# Altium integrated library Analog_Devices_Power_Management_Linear_Regulators.IntLib: 441 symbols (part 4 of 23)
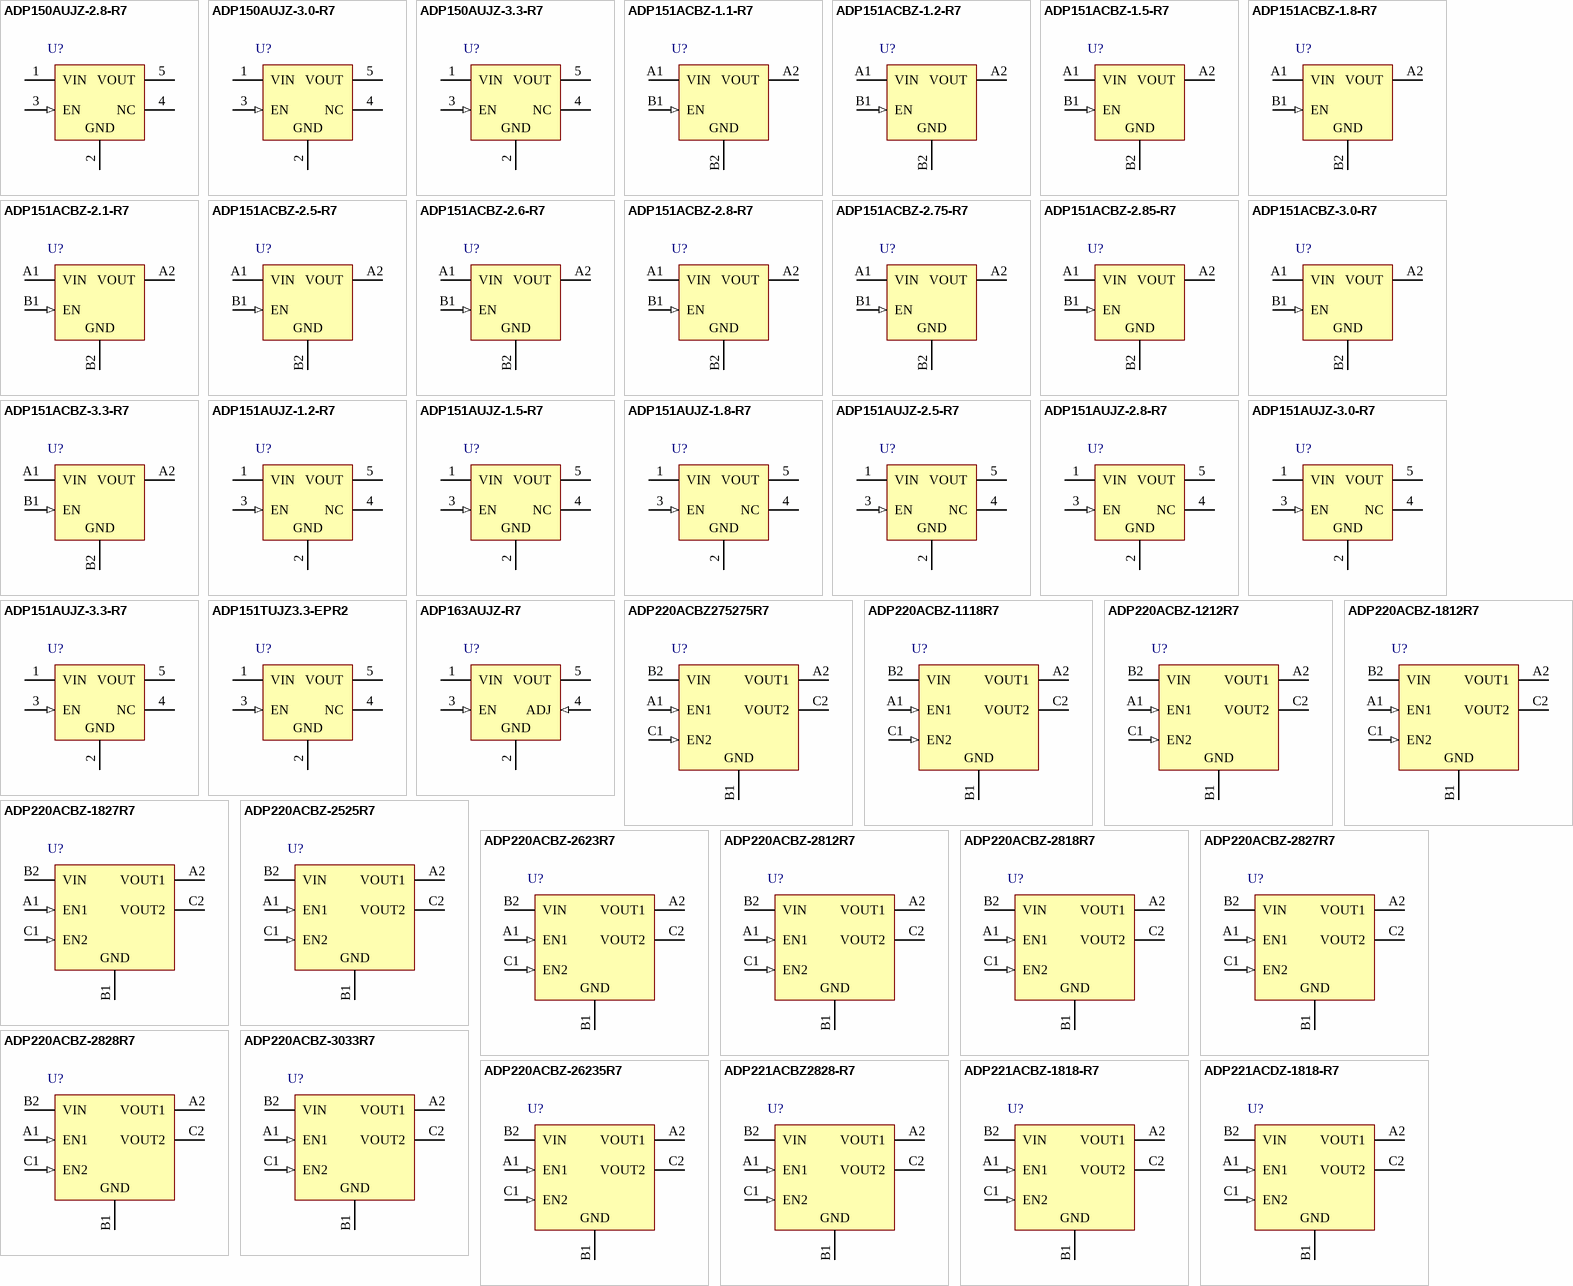
[diagram p14: symbols ADP150AUJZ-2.8-R7 to ADP221ACDZ-1818-R7]

## ADP220ACBZ-2525R7
designator U?
Dual, 200 mA, Low Noise, High PSRR Voltage Regulator, 2.5 to 5.5 V Vin, 2.5 V Vout, Industrial, 6-pin BGA (CB-6-2), Reel; Manufacturer: Analog Devices; PartNumber: ADP220ACBZ-2525R7; Iout max: 200mA; Preset Vout Values (V): 2.5; 2.5; Supply Current IGND @ Small Load: 60uA; Vin (max) (V): 5.5; Vin (min) (V): 2.5; DatasheetVersion: 08-15-2012-A; PackageVersion: 062206-A, 06/2006; PackageReference: CB-6-2; PackageDescription: 6-Ball Wafer Level Chip Scale Package, Body 1.45 x 0.95 mm, Pitch 0.5 mm; Supplier 1: Digi-Key; Supplier Part Number 1: ADP220ACBZ-2525R7TR-ND; Supplier 2: Digi-Key; Supplier Part Number 2: ADP220ACBZ-2525R7CT-ND; Supplier 3: Digi-Key; Supplier Part Number 3: ADP220ACBZ-2525R7DKR-ND; Supplier 4: Mouser; Supplier Part Number 4: 584-ADP220ACBZ2525R7; Packing: Reel; Mounting Technology: Surface Mount; ComponentLink1Description: Manufacturer URL; ComponentLink1URL: http://www.analog.com/en/index.html; ComponentLink2Description: Datasheet; ComponentLink2URL: http://www.analog.com/static/imported-files/data_sheets/ADP220_221.pdf; ComponentLink3Description: Package Specification; ComponentLink3URL: http://www.analog.com/static/imported-files/data_sheets/AD8312.pdf; ComponentLink4Description: URL Link1; ComponentLink4URL: Product URL:http://www.analog.com/en/ADP220/productSearch.html
footprint ADI-CB-6-2 (BGA, 6-Balls, Body 1.45x0.95mm, Pitch 0.5mm)
pins: A1 EN1 (in) "Enable Input for Regulator 1. Drive EN1 high to turn on Regulator 1; drive it low to turn off Regulator 1. For automatic startup, connect EN1 to VIN.", A2 VOUT1 (power) "Regulated Output Voltage 1. Connect a 1 uF or greater output capacitor between VOUT1 and GND.", B1 GND (power) "Ground Pin.", B2 VIN (power) "Regulator Input Supply. Bypass VIN to GND with a 1 uF or greater capacitor.", C1 EN2 (in) "Enable Input for Regulator 2. Drive EN2 high to turn on Regulator 2; drive it low to turn off Regulator 2. For automatic startup, connect EN2 to VIN.", C2 VOUT2 (power) "Regulated Output Voltage 2. Connect a 1 uF or greater output capacitor between VOUT2 and GND."

## ADP220ACBZ-2623R7
designator U?
Dual, 200 mA, Low Noise, High PSRR Voltage Regulator, 2.3 to 5.5 V Vin, 2.6; 2.3 V Vout, Industrial, 6-pin BGA (CB-6-2), Reel; Manufacturer: Analog Devices; PartNumber: ADP220ACBZ-2623R7; Iout max: 200mA; Supply Current IGND @ Small Load: 60uA; Vin (max) (V): 5.5; Vin (min) (V): 2.5; DatasheetVersion: 08-15-2012-A; PackageVersion: 062206-A, 06/2006; PackageReference: CB-6-2; PackageDescription: 6-Ball Wafer Level Chip Scale Package, Body 1.45 x 0.95 mm, Pitch 0.5 mm; Supplier 1: Digi-Key; Supplier Part Number 1: ADP220ACBZ-2623R7TR-ND; Supplier 2: Digi-Key; Supplier Part Number 2: ADP220ACBZ-2623R7CT-ND; Supplier 3: Digi-Key; Supplier Part Number 3: ADP220ACBZ-2623R7DKR-ND; Supplier 4: Mouser; Supplier Part Number 4: 584-ADP220ACBZ2623R7; Packing: Reel; Preset Vout Values (V): 2.6; 2.3; Mounting Technology: Surface Mount; ComponentLink1Description: Manufacturer URL; ComponentLink1URL: http://www.analog.com/en/index.html; ComponentLink2Description: Datasheet; ComponentLink2URL: http://www.analog.com/static/imported-files/data_sheets/ADP220_221.pdf; ComponentLink3Description: Package Specification; ComponentLink3URL: http://www.analog.com/static/imported-files/data_sheets/AD8312.pdf; ComponentLink4Description: URL Link1; ComponentLink4URL: Product URL:http://www.analog.com/en/ADP220/productSearch.html
footprint ADI-CB-6-2 (BGA, 6-Balls, Body 1.45x0.95mm, Pitch 0.5mm)
pins: A1 EN1 (in) "Enable Input for Regulator 1. Drive EN1 high to turn on Regulator 1; drive it low to turn off Regulator 1. For automatic startup, connect EN1 to VIN.", A2 VOUT1 (power) "Regulated Output Voltage 1. Connect a 1 uF or greater output capacitor between VOUT1 and GND.", B1 GND (power) "Ground Pin.", B2 VIN (power) "Regulator Input Supply. Bypass VIN to GND with a 1 uF or greater capacitor.", C1 EN2 (in) "Enable Input for Regulator 2. Drive EN2 high to turn on Regulator 2; drive it low to turn off Regulator 2. For automatic startup, connect EN2 to VIN.", C2 VOUT2 (power) "Regulated Output Voltage 2. Connect a 1 uF or greater output capacitor between VOUT2 and GND."

## ADP220ACBZ-2812R7
designator U?
Dual, 200 mA, Low Noise, High PSRR Voltage Regulator, 2.3 to 5.5 V Vin, 2.8; 1.2 V Vout, Industrial, 6-pin BGA (CB-6-2), Reel; Manufacturer: Analog Devices; PartNumber: ADP220ACBZ-2812R7; Iout max: 200mA; Supply Current IGND @ Small Load: 60uA; Vin (max) (V): 5.5; Vin (min) (V): 2.5; DatasheetVersion: 08-15-2012-A; PackageVersion: 062206-A, 06/2006; PackageReference: CB-6-2; PackageDescription: 6-Ball Wafer Level Chip Scale Package, Body 1.45 x 0.95 mm, Pitch 0.5 mm; Supplier 1: Digi-Key; Supplier Part Number 1: ADP220ACBZ-2812R7TR-ND; Supplier 2: Digi-Key; Supplier Part Number 2: ADP220ACBZ-2812R7CT-ND; Supplier 3: Digi-Key; Supplier Part Number 3: ADP220ACBZ-2812R7DKR-ND; Supplier 4: Mouser; Supplier Part Number 4: 584-ADP220ACBZ2812R7; Packing: Reel; Preset Vout Values (V): 2.8; 1.2; Mounting Technology: Surface Mount; ComponentLink1Description: Manufacturer URL; ComponentLink1URL: http://www.analog.com/en/index.html; ComponentLink2Description: Datasheet; ComponentLink2URL: http://www.analog.com/static/imported-files/data_sheets/ADP220_221.pdf; ComponentLink3Description: Package Specification; ComponentLink3URL: http://www.analog.com/static/imported-files/data_sheets/AD8312.pdf; ComponentLink4Description: URL Link1; ComponentLink4URL: Product URL:http://www.analog.com/en/ADP220/productSearch.html
footprint ADI-CB-6-2 (BGA, 6-Balls, Body 1.45x0.95mm, Pitch 0.5mm)
pins: A1 EN1 (in) "Enable Input for Regulator 1. Drive EN1 high to turn on Regulator 1; drive it low to turn off Regulator 1. For automatic startup, connect EN1 to VIN.", A2 VOUT1 (power) "Regulated Output Voltage 1. Connect a 1 uF or greater output capacitor between VOUT1 and GND.", B1 GND (power) "Ground Pin.", B2 VIN (power) "Regulator Input Supply. Bypass VIN to GND with a 1 uF or greater capacitor.", C1 EN2 (in) "Enable Input for Regulator 2. Drive EN2 high to turn on Regulator 2; drive it low to turn off Regulator 2. For automatic startup, connect EN2 to VIN.", C2 VOUT2 (power) "Regulated Output Voltage 2. Connect a 1 uF or greater output capacitor between VOUT2 and GND."

## ADP220ACBZ-2818R7
designator U?
Dual, 200 mA, Low Noise, High PSRR Voltage Regulator, 2.5 to 5.5 V Vin, 2.8; 1.8 V Vout, Industrial, 6-pin BGA (CB-6-2), Reel; Manufacturer: Analog Devices; PartNumber: ADP220ACBZ-2818R7; Iout max: 200mA; Supply Current IGND @ Small Load: 60uA; Vin (max) (V): 5.5; Vin (min) (V): 2.5; DatasheetVersion: 08-15-2012-A; PackageVersion: 062206-A, 06/2006; PackageReference: CB-6-2; PackageDescription: 6-Ball Wafer Level Chip Scale Package, Body 1.45 x 0.95 mm, Pitch 0.5 mm; Supplier 1: Digi-Key; Supplier Part Number 1: ADP220ACBZ-2818R7TR-ND; Supplier 2: Digi-Key; Supplier Part Number 2: ADP220ACBZ-2818R7CT-ND; Supplier 3: Digi-Key; Supplier Part Number 3: ADP220ACBZ-2818R7DKR-ND; Supplier 4: Mouser; Supplier Part Number 4: 584-ADP220ACBZ2818R7; Packing: Reel; Preset Vout Values (V): 2.8; 1.8; Mounting Technology: Surface Mount; ComponentLink1Description: Manufacturer URL; ComponentLink1URL: http://www.analog.com/en/index.html; ComponentLink2Description: Datasheet; ComponentLink2URL: http://www.analog.com/static/imported-files/data_sheets/ADP220_221.pdf; ComponentLink3Description: Package Specification; ComponentLink3URL: http://www.analog.com/static/imported-files/data_sheets/AD8312.pdf; ComponentLink4Description: URL Link1; ComponentLink4URL: Product URL:http://www.analog.com/en/ADP220/productSearch.html
footprint ADI-CB-6-2 (BGA, 6-Balls, Body 1.45x0.95mm, Pitch 0.5mm)
pins: A1 EN1 (in) "Enable Input for Regulator 1. Drive EN1 high to turn on Regulator 1; drive it low to turn off Regulator 1. For automatic startup, connect EN1 to VIN.", A2 VOUT1 (power) "Regulated Output Voltage 1. Connect a 1 uF or greater output capacitor between VOUT1 and GND.", B1 GND (power) "Ground Pin.", B2 VIN (power) "Regulator Input Supply. Bypass VIN to GND with a 1 uF or greater capacitor.", C1 EN2 (in) "Enable Input for Regulator 2. Drive EN2 high to turn on Regulator 2; drive it low to turn off Regulator 2. For automatic startup, connect EN2 to VIN.", C2 VOUT2 (power) "Regulated Output Voltage 2. Connect a 1 uF or greater output capacitor between VOUT2 and GND."

## ADP220ACBZ-2827R7
designator U?
Dual, 200 mA, Low Noise, High PSRR Voltage Regulator, 2.5 to 5.5 V Vin, 2.8; 2.7 V Vout, Industrial, 6-pin BGA (CB-6-2), Reel; Manufacturer: Analog Devices; PartNumber: ADP220ACBZ-2827R7; Iout max: 200mA; Supply Current IGND @ Small Load: 60uA; Vin (max) (V): 5.5; Vin (min) (V): 2.5; DatasheetVersion: 08-15-2012-A; PackageVersion: 062206-A, 06/2006; PackageReference: CB-6-2; PackageDescription: 6-Ball Wafer Level Chip Scale Package, Body 1.45 x 0.95 mm, Pitch 0.5 mm; Supplier 1: Digi-Key; Supplier Part Number 1: ADP220ACBZ-2827R7TR-ND; Supplier 2: Digi-Key; Supplier Part Number 2: ADP220ACBZ-2827R7CT-ND; Supplier 3: Digi-Key; Supplier Part Number 3: ADP220ACBZ-2827R7DKR-ND; Supplier 4: Mouser; Supplier Part Number 4: 584-ADP220ACBZ2827R7; Packing: Reel; Preset Vout Values (V): 2.8; 2.7; Mounting Technology: Surface Mount; ComponentLink1Description: Manufacturer URL; ComponentLink1URL: http://www.analog.com/en/index.html; ComponentLink2Description: Datasheet; ComponentLink2URL: http://www.analog.com/static/imported-files/data_sheets/ADP220_221.pdf; ComponentLink3Description: Package Specification; ComponentLink3URL: http://www.analog.com/static/imported-files/data_sheets/AD8312.pdf; ComponentLink4Description: URL Link1; ComponentLink4URL: Product URL:http://www.analog.com/en/ADP220/productSearch.html
footprint ADI-CB-6-2 (BGA, 6-Balls, Body 1.45x0.95mm, Pitch 0.5mm)
pins: A1 EN1 (in) "Enable Input for Regulator 1. Drive EN1 high to turn on Regulator 1; drive it low to turn off Regulator 1. For automatic startup, connect EN1 to VIN.", A2 VOUT1 (power) "Regulated Output Voltage 1. Connect a 1 uF or greater output capacitor between VOUT1 and GND.", B1 GND (power) "Ground Pin.", B2 VIN (power) "Regulator Input Supply. Bypass VIN to GND with a 1 uF or greater capacitor.", C1 EN2 (in) "Enable Input for Regulator 2. Drive EN2 high to turn on Regulator 2; drive it low to turn off Regulator 2. For automatic startup, connect EN2 to VIN.", C2 VOUT2 (power) "Regulated Output Voltage 2. Connect a 1 uF or greater output capacitor between VOUT2 and GND."

## ADP220ACBZ-2828R7
designator U?
Dual, 200 mA, Low Noise, High PSRR Voltage Regulator, 2.5 to 5.5 V Vin, 2.8 V Vout, Industrial, 6-pin BGA (CB-6-2), Reel; Manufacturer: Analog Devices; PartNumber: ADP220ACBZ-2828R7; Iout max: 200mA; Preset Vout Values (V): 2.8; 2.8; Supply Current IGND @ Small Load: 60uA; Vin (max) (V): 5.5; Vin (min) (V): 2.5; DatasheetVersion: 08-15-2012-A; PackageVersion: 062206-A, 06/2006; PackageReference: CB-6-2; PackageDescription: 6-Ball Wafer Level Chip Scale Package, Body 1.45 x 0.95 mm, Pitch 0.5 mm; Supplier 1: Digi-Key; Supplier Part Number 1: ADP220ACBZ-2828R7TR-ND; Supplier 2: Digi-Key; Supplier Part Number 2: ADP220ACBZ-2828R7CT-ND; Supplier 3: Digi-Key; Supplier Part Number 3: ADP220ACBZ-2828R7DKR-ND; Supplier 4: Mouser; Supplier Part Number 4: 584-ADP220ACBZ2828R7; Packing: Reel; Mounting Technology: Surface Mount; ComponentLink1Description: Manufacturer URL; ComponentLink1URL: http://www.analog.com/en/index.html; ComponentLink2Description: Datasheet; ComponentLink2URL: http://www.analog.com/static/imported-files/data_sheets/ADP220_221.pdf; ComponentLink3Description: Package Specification; ComponentLink3URL: http://www.analog.com/static/imported-files/data_sheets/AD8312.pdf; ComponentLink4Description: URL Link1; ComponentLink4URL: Product URL:http://www.analog.com/en/ADP220/productSearch.html
footprint ADI-CB-6-2 (BGA, 6-Balls, Body 1.45x0.95mm, Pitch 0.5mm)
pins: A1 EN1 (in) "Enable Input for Regulator 1. Drive EN1 high to turn on Regulator 1; drive it low to turn off Regulator 1. For automatic startup, connect EN1 to VIN.", A2 VOUT1 (power) "Regulated Output Voltage 1. Connect a 1 uF or greater output capacitor between VOUT1 and GND.", B1 GND (power) "Ground Pin.", B2 VIN (power) "Regulator Input Supply. Bypass VIN to GND with a 1 uF or greater capacitor.", C1 EN2 (in) "Enable Input for Regulator 2. Drive EN2 high to turn on Regulator 2; drive it low to turn off Regulator 2. For automatic startup, connect EN2 to VIN.", C2 VOUT2 (power) "Regulated Output Voltage 2. Connect a 1 uF or greater output capacitor between VOUT2 and GND."

## ADP220ACBZ-3033R7
designator U?
Dual, 200 mA, Low Noise, High PSRR Voltage Regulator, 2.3 to 5.5 V Vin, 3.0; 3.3 V Vout, Industrial, 6-pin BGA (CB-6-2), Reel; Manufacturer: Analog Devices; PartNumber: ADP220ACBZ-3033R7; Iout max: 200mA; Supply Current IGND @ Small Load: 60uA; Vin (max) (V): 5.5; Vin (min) (V): 2.5; DatasheetVersion: 08-15-2012-A; PackageVersion: 062206-A, 06/2006; PackageReference: CB-6-2; PackageDescription: 6-Ball Wafer Level Chip Scale Package, Body 1.45 x 0.95 mm, Pitch 0.5 mm; Supplier 1: Mouser; Supplier Part Number 1: N/A; Packing: Reel; Preset Vout Values (V): 3.0; 3.3; Mounting Technology: Surface Mount; ComponentLink1Description: Manufacturer URL; ComponentLink1URL: http://www.analog.com/en/index.html; ComponentLink2Description: Datasheet; ComponentLink2URL: http://www.analog.com/static/imported-files/data_sheets/ADP220_221.pdf; ComponentLink3Description: Package Specification; ComponentLink3URL: http://www.analog.com/static/imported-files/data_sheets/AD8312.pdf; ComponentLink4Description: URL Link1; ComponentLink4URL: Product URL:http://www.analog.com/en/ADP220/productSearch.html
footprint ADI-CB-6-2 (BGA, 6-Balls, Body 1.45x0.95mm, Pitch 0.5mm)
pins: A1 EN1 (in) "Enable Input for Regulator 1. Drive EN1 high to turn on Regulator 1; drive it low to turn off Regulator 1. For automatic startup, connect EN1 to VIN.", A2 VOUT1 (power) "Regulated Output Voltage 1. Connect a 1 uF or greater output capacitor between VOUT1 and GND.", B1 GND (power) "Ground Pin.", B2 VIN (power) "Regulator Input Supply. Bypass VIN to GND with a 1 uF or greater capacitor.", C1 EN2 (in) "Enable Input for Regulator 2. Drive EN2 high to turn on Regulator 2; drive it low to turn off Regulator 2. For automatic startup, connect EN2 to VIN.", C2 VOUT2 (power) "Regulated Output Voltage 2. Connect a 1 uF or greater output capacitor between VOUT2 and GND."

## ADP220ACBZ-26235R7
designator U?
Dual, 200 mA, Low Noise, High PSRR Voltage Regulator, 2.3 to 5.5 V Vin, 2.6; 2.35 V Vout, Industrial, 6-pin BGA (CB-6-2), Reel; Manufacturer: Analog Devices; PartNumber: ADP220ACBZ-26235R7; Iout max: 200mA; Supply Current IGND @ Small Load: 60uA; Vin (max) (V): 5.5; Vin (min) (V): 2.5; DatasheetVersion: 08-15-2012-A; PackageVersion: 062206-A, 06/2006; PackageReference: CB-6-2; PackageDescription: 6-Ball Wafer Level Chip Scale Package, Body 1.45 x 0.95 mm, Pitch 0.5 mm; Supplier 1: Digi-Key; Supplier Part Number 1: ADP220ACBZ-26235R7TR-ND; Supplier 2: Digi-Key; Supplier Part Number 2: ADP220ACBZ-26235R7CT-ND; Supplier 3: Digi-Key; Supplier Part Number 3: ADP220ACBZ-26235R7DKR-ND; Supplier 4: Mouser; Supplier Part Number 4: 584-AP220ACBZ26235R7; Packing: Reel; Preset Vout Values (V): 2.6; 2.35; Mounting Technology: Surface Mount; ComponentLink1Description: Manufacturer URL; ComponentLink1URL: http://www.analog.com/en/index.html; ComponentLink2Description: Datasheet; ComponentLink2URL: http://www.analog.com/static/imported-files/data_sheets/ADP220_221.pdf; ComponentLink3Description: Package Specification; ComponentLink3URL: http://www.analog.com/static/imported-files/data_sheets/AD8312.pdf; ComponentLink4Description: URL Link1; ComponentLink4URL: Product URL:http://www.analog.com/en/ADP220/productSearch.html
footprint ADI-CB-6-2 (BGA, 6-Balls, Body 1.45x0.95mm, Pitch 0.5mm)
pins: A1 EN1 (in) "Enable Input for Regulator 1. Drive EN1 high to turn on Regulator 1; drive it low to turn off Regulator 1. For automatic startup, connect EN1 to VIN.", A2 VOUT1 (power) "Regulated Output Voltage 1. Connect a 1 uF or greater output capacitor between VOUT1 and GND.", B1 GND (power) "Ground Pin.", B2 VIN (power) "Regulator Input Supply. Bypass VIN to GND with a 1 uF or greater capacitor.", C1 EN2 (in) "Enable Input for Regulator 2. Drive EN2 high to turn on Regulator 2; drive it low to turn off Regulator 2. For automatic startup, connect EN2 to VIN.", C2 VOUT2 (power) "Regulated Output Voltage 2. Connect a 1 uF or greater output capacitor between VOUT2 and GND."

## ADP221ACBZ2828-R7
designator U?
Dual, 200 mA, Low Noise, High PSRR Voltage Regulator, 2.5 to 5.5 V Vin, 2.8 V Vout, Industrial, 6-pin BGA (CB-6-2), Reel; Manufacturer: Analog Devices; PartNumber: ADP221ACBZ2828-R7; Iout max: 200mA; Preset Vout Values (V): 2.8; 2.8; Supply Current IGND @ Small Load: 60uA; Vin (max) (V): 5.5; Vin (min) (V): 2.5; DatasheetVersion: 08-15-2012-A; PackageVersion: 062206-A, 06/2006; PackageReference: CB-6-2; PackageDescription: 6-Ball Wafer Level Chip Scale Package, Body 1.45 x 0.95 mm, Pitch 0.5 mm; Supplier 1: Digi-Key; Supplier Part Number 1: ADP221ACBZ2828-R7TR-ND; Supplier 2: Digi-Key; Supplier Part Number 2: ADP221ACBZ2828-R7CT-ND; Supplier 3: Digi-Key; Supplier Part Number 3: ADP221ACBZ2828-R7DKR-ND; Supplier 4: Mouser; Supplier Part Number 4: 584-ADP221ACBZ2828R7; Packing: Reel; Mounting Technology: Surface Mount; ComponentLink1Description: Manufacturer URL; ComponentLink1URL: http://www.analog.com/en/index.html; ComponentLink2Description: Datasheet; ComponentLink2URL: http://www.analog.com/static/imported-files/data_sheets/ADP220_221.pdf; ComponentLink3Description: Package Specification; ComponentLink3URL: http://www.analog.com/static/imported-files/data_sheets/AD8312.pdf; ComponentLink4Description: URL Link1; ComponentLink4URL: Product URL:http://www.analog.com/en/ADP221/productSearch.html
footprint ADI-CB-6-2 (BGA, 6-Balls, Body 1.45x0.95mm, Pitch 0.5mm)
pins: A1 EN1 (in) "Enable Input for Regulator 1. Drive EN1 high to turn on Regulator 1; drive it low to turn off Regulator 1. For automatic startup, connect EN1 to VIN.", A2 VOUT1 (power) "Regulated Output Voltage 1. Connect a 1 uF or greater output capacitor between VOUT1 and GND", B1 GND (power) "Ground Pin.", B2 VIN (power) "Regulator Input Supply. Bypass VIN to GND with a 1 uF or greater capacitor.", C1 EN2 (in) "Enable Input for Regulator 2. Drive EN2 high to turn on Regulator 2; drive it low to turn off Regulator 2. For automatic startup, connect EN2 to VIN.", C2 VOUT2 (power) "Regulated Output Voltage 2. Connect a 1 uF or greater output capacitor between VOUT2 and GND."

## ADP221ACBZ-1818-R7
designator U?
Dual, 200 mA, Low Noise, High PSRR Voltage Regulator, 2.5 to 5.5 V Vin, 1.8 V Vout, Industrial, 6-pin BGA (CB-6-2), Reel; Manufacturer: Analog Devices; PartNumber: ADP221ACBZ-1818-R7; Iout max: 200mA; Preset Vout Values (V): 1.8; 1.8; Supply Current IGND @ Small Load: 60uA; Vin (max) (V): 5.5; Vin (min) (V): 2.5; DatasheetVersion: 08-15-2012-A; PackageVersion: 062206-A, 06/2006; PackageReference: CB-6-2; PackageDescription: 6-Ball Wafer Level Chip Scale Package, Body 1.45 x 0.95 mm, Pitch 0.5 mm; Supplier 1: Digi-Key; Supplier Part Number 1: ADP221ACBZ-1818-R7TR-ND; Supplier 2: Digi-Key; Supplier Part Number 2: ADP221ACBZ-1818-R7CT-ND; Supplier 3: Digi-Key; Supplier Part Number 3: ADP221ACBZ-1818-R7DKR-ND; Supplier 4: Farnell; Supplier Part Number 4: 2254942; Supplier 5: Newark; Supplier Part Number 5: 54W6612; Supplier 6: Newark; Supplier Part Number 6: 52W9292; Supplier 7: Mouser; Supplier Part Number 7: 584-ADP221ACBZ1818R7; Packing: Reel; Mounting Technology: Surface Mount; ComponentLink1Description: Manufacturer URL; ComponentLink1URL: http://www.analog.com/en/index.html; ComponentLink2Description: Datasheet; ComponentLink2URL: http://www.analog.com/static/imported-files/data_sheets/ADP220_221.pdf; ComponentLink3Description: Package Specification; ComponentLink3URL: http://www.analog.com/static/imported-files/data_sheets/AD8312.pdf; ComponentLink4Description: URL Link1; ComponentLink4URL: Product URL:http://www.analog.com/en/ADP221/productSearch.html
footprint ADI-CB-6-2 (BGA, 6-Balls, Body 1.45x0.95mm, Pitch 0.5mm)
pins: A1 EN1 (in) "Enable Input for Regulator 1. Drive EN1 high to turn on Regulator 1; drive it low to turn off Regulator 1. For automatic startup, connect EN1 to VIN.", A2 VOUT1 (power) "Regulated Output Voltage 1. Connect a 1 uF or greater output capacitor between VOUT1 and GND", B1 GND (power) "Ground Pin.", B2 VIN (power) "Regulator Input Supply. Bypass VIN to GND with a 1 uF or greater capacitor.", C1 EN2 (in) "Enable Input for Regulator 2. Drive EN2 high to turn on Regulator 2; drive it low to turn off Regulator 2. For automatic startup, connect EN2 to VIN.", C2 VOUT2 (power) "Regulated Output Voltage 2. Connect a 1 uF or greater output capacitor between VOUT2 and GND."

## ADP221ACDZ-1818-R7
designator U?
Dual, 200 mA, Low Noise, High PSRR Voltage Regulator, 2.5 to 5.5 V Vin, 1.8 V Vout, Industrial, 6-pin BGA (CD-6-7), Reel; Manufacturer: Analog Devices; PartNumber: ADP221ACDZ-1818-R7; Iout max: 200mA; Preset Vout Values (V): 1.8; 1.8; Supply Current IGND @ Small Load: 60uA; Vin (max) (V): 5.5; Vin (min) (V): 2.5; DatasheetVersion: 08-15-2012-A; PackageVersion: 08-15-2012-A, 01/2013; PackageReference: CD-6-7; PackageDescription: 6-Ball Bumped Bare Die Sales, Body 1.46 x 0.96 mm, Pitch 0.5 mm; Supplier 1: Newark; Supplier Part Number 1: 87W6353; Supplier 2: Mouser; Supplier Part Number 2: 584-ADP221ACDZ1818R7; Packing: Reel; Mounting Technology: Surface Mount; ComponentLink1Description: Manufacturer URL; ComponentLink1URL: http://www.analog.com/en/index.html; ComponentLink2Description: Datasheet; ComponentLink2URL: http://www.analog.com/static/imported-files/data_sheets/ADP220_221.pdf; ComponentLink3Description: Package Specification; ComponentLink3URL: http://www.analog.com/static/imported-files/data_sheets/ADP220_221.pdf; ComponentLink4Description: URL Link1; ComponentLink4URL: Product URL:http://www.analog.com/en/ADP221/productSearch.html
footprint ADI-CD-6-7 (BGA, 6-Balls, Body 1.46x0.96mm, Pitch 0.5mm)
pins: A1 EN1 (in) "Enable Input for Regulator 1. Drive EN1 high to turn on Regulator 1; drive it low to turn off Regulator 1. For automatic startup, connect EN1 to VIN.", A2 VOUT1 (power) "Regulated Output Voltage 1. Connect a 1 uF or greater output capacitor between VOUT1 and GND.", B1 GND (power) "Ground Pin.", B2 VIN (power) "Regulator Input Supply. Bypass VIN to GND with a 1 uF or greater capacitor.", C1 EN2 (in) "Enable Input for Regulator 2. Drive EN2 high to turn on Regulator 2; drive it low to turn off Regulator 2. For automatic startup, connect EN2 to VIN.", C2 VOUT2 (power) "Regulated Output Voltage 2. Connect a 1 uF or greater output capacitor between VOUT2 and GND."

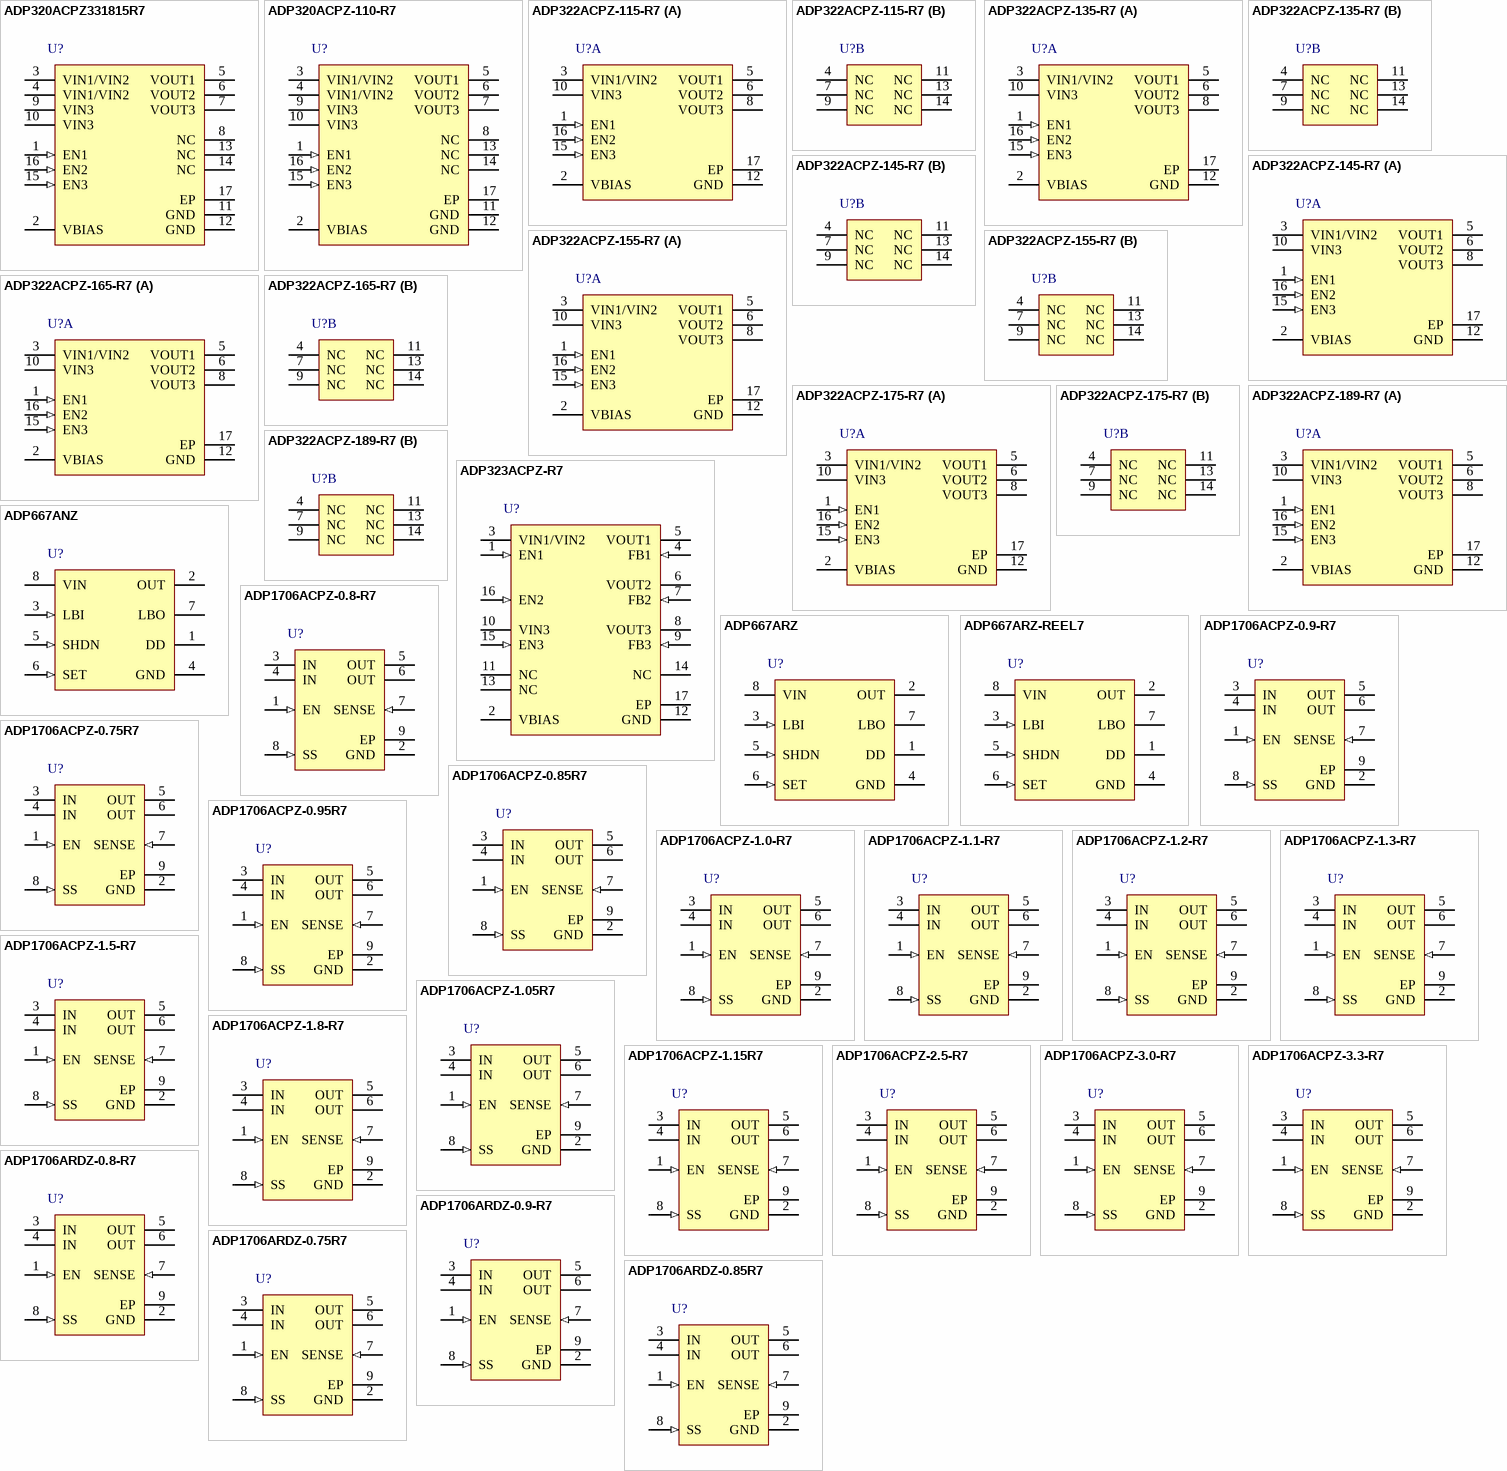
[diagram p2: symbols ADP320ACPZ331815R7 to ADP1706ARDZ-0.85R7]

## ADP320ACPZ331815R7
designator U?
Triple, 200 mA, Low Noise, High PSRR Voltage Regulator, 2.5 to 5.5 V Vin, 1.5; 1.8; 3.3 V Vout, Industrial, 16-pin QFN (CP-16-27), Reel; Manufacturer: Analog Devices; PartNumber: ADP320ACPZ331815R7; Iout max: 200mA; Supply Current IGND @ Small Load: 85uA; Vin (max) (V): 5.5; Vin (min) (V): 2.5; DatasheetVersion: Rev. A; PackageVersion: 091609-A, 09/2009; PackageReference: CP-16-27; PackageDescription: 16-Pin Lead Frame Chip Scale Package, Body 3 x 3 mm, Pitch 0.5 mm; Supplier 1: Digi-Key; Supplier Part Number 1: ADP320ACPZ331815R7TR-ND; Supplier 2: Digi-Key; Supplier Part Number 2: ADP320ACPZ331815R7CT-ND; Supplier 3: Digi-Key; Supplier Part Number 3: ADP320ACPZ331815R7DKR-ND; Supplier 4: Mouser; Supplier Part Number 4: 584-P320ACPZ331815R7; Packing: Reel; Preset Vout Values (V): 1.5; 1.8; 3.3; Mounting Technology: Surface Mount; Code_JEDEC: MO-229; ComponentLink1Description: Manufacturer URL; ComponentLink1URL: http://www.analog.com/en/index.html; ComponentLink2Description: Datasheet; ComponentLink2URL: http://www.analog.com/static/imported-files/data_sheets/ADP320.pdf; ComponentLink3Description: Package Specification; ComponentLink3URL: http://www.analog.com/static/imported-files/packages/PKG_PDF/LFCSP(CP)/CP_16_27.pdf; ComponentLink4Description: URL Link1; ComponentLink4URL: Product URL:http://www.analog.com/en/ADP320/productSearch.html
footprint ADI-CP-16-27_N (QFN, 16-Leads, Body 3x3mm, Pitch 0.5mm, Thermal Pad 1.55X1.55mm, IPC Medium Density)
footprint ADI-CP-16-27_L (QFN, 16-Leads, Body 3x3mm, Pitch 0.5mm, Thermal Pad 1.55X1.55mm, IPC High Density)
footprint ADI-CP-16-27_M (QFN, 16-Leads, Body 3x3mm, Pitch 0.5mm, Thermal Pad 1.55X1.55mm, IPC Low Density)
pins: 1 EN1 (in) "Enable Input for Regulator 1. Drive EN1 high to turn on Regulator 1; drive it low to turn off Regulator 1. For automatic startup, connect EN1 to VBIAS.", 2 VBIAS (power) "Input Voltage Bias Supply. Bypass VBIAS to GND with a 1 uF or greater capacitor", 3 VIN1/VIN2 (power) "Regulator Input Supply for Output Voltage 1 and Output Voltage 2. Bypass VIN1/VIN2 to GND with a 1 uF or greater capacitor", 4 VIN1/VIN2 (power) "Regulator Input Supply for Output Voltage 1 and Output Voltage 2. Bypass VIN1/VIN2 to GND with a 1 uF or greater capacitor", 5 VOUT1 (power) "Regulated Output Voltage 1. Connect a 1 uF or greater output capacitor between VOUT1 and GND.", 6 VOUT2 (power) "Regulated Output Voltage 2. Connect a 1 uF or greater output capacitor between VOUT2 and GND.", 7 VOUT3 (power) "Regulated Output Voltage 3. Connect a 1 uF or greater output capacitor between VOUT3 and GND.", 8 NC "Not connected internally.", 9 VIN3 (power) "Regulator Input Supply for Output Voltage 3. Bypass VIN3 to GND with a 1 uF or greater capacitor.", 10 VIN3 (power) "Regulator Input Supply for Output Voltage 3. Bypass VIN3 to GND with a 1 uF or greater capacitor.", 11 GND (power) "Ground Pin.", 12 GND (power) "Ground Pin.", 13 NC "Not connected internally.", 14 NC "Not connected internally.", 15 EN3 (in) "Enable Input for Regulator 3. Drive EN3 high to turn on Regulator 3; drive it low to turn off Regulator 3. For automatic startup, connect EN3 to VBIAS.", 16 EN2 (in) "Enable Input for Regulator 2. Drive EN1 high to turn on Regulator 2; drive it low to turn off Regulator 2. For automatic startup, connect EN2 to VBIAS.", 17 EP (power) "Exposed pad for enhanced thermal performance. Connect to copper ground plane."

## ADP320ACPZ-110-R7
designator U?
Triple, 200 mA, Low Noise, High PSRR Voltage Regulator, 2.5 to 5.5 V Vin, 1.5; 3.3 V Vout, Industrial, 16-pin QFN (CP-16-27), Reel; Manufacturer: Analog Devices; PartNumber: ADP320ACPZ-110-R7; Iout max: 200mA; Preset Vout Values (V): 1.5; 3.3; 3.3; Supply Current IGND @ Small Load: 85uA; Vin (max) (V): 5.5; Vin (min) (V): 2.5; DatasheetVersion: Rev. A; PackageVersion: 091609-A, 09/2009; PackageReference: CP-16-27; PackageDescription: 16-Pin Lead Frame Chip Scale Package, Body 3 x 3 mm, Pitch 0.5 mm; Supplier 1: Digi-Key; Supplier Part Number 1: ADP320ACPZ-110-R7TR-ND; Supplier 2: Digi-Key; Supplier Part Number 2: ADP320ACPZ-110-R7CT-ND; Supplier 3: Digi-Key; Supplier Part Number 3: ADP320ACPZ-110-R7DKR-ND; Supplier 4: Mouser; Supplier Part Number 4: 584-ADP320ACPZ-110R7; Packing: Reel; Mounting Technology: Surface Mount; Code_JEDEC: MO-229; ComponentLink1Description: Manufacturer URL; ComponentLink1URL: http://www.analog.com/en/index.html; ComponentLink2Description: Datasheet; ComponentLink2URL: http://www.analog.com/static/imported-files/data_sheets/ADP320.pdf; ComponentLink3Description: Package Specification; ComponentLink3URL: http://www.analog.com/static/imported-files/packages/PKG_PDF/LFCSP(CP)/CP_16_27.pdf; ComponentLink4Description: URL Link1; ComponentLink4URL: Product URL:http://www.analog.com/en/ADP320/productSearch.html
footprint ADI-CP-16-27_N (QFN, 16-Leads, Body 3x3mm, Pitch 0.5mm, Thermal Pad 1.55X1.55mm, IPC Medium Density)
footprint ADI-CP-16-27_L (QFN, 16-Leads, Body 3x3mm, Pitch 0.5mm, Thermal Pad 1.55X1.55mm, IPC High Density)
footprint ADI-CP-16-27_M (QFN, 16-Leads, Body 3x3mm, Pitch 0.5mm, Thermal Pad 1.55X1.55mm, IPC Low Density)
pins: 1 EN1 (in) "Enable Input for Regulator 1. Drive EN1 high to turn on Regulator 1; drive it low to turn off Regulator 1. For automatic startup, connect EN1 to VBIAS.", 2 VBIAS (power) "Input Voltage Bias Supply. Bypass VBIAS to GND with a 1 uF or greater capacitor", 3 VIN1/VIN2 (power) "Regulator Input Supply for Output Voltage 1 and Output Voltage 2. Bypass VIN1/VIN2 to GND with a 1 uF or greater capacitor", 4 VIN1/VIN2 (power) "Regulator Input Supply for Output Voltage 1 and Output Voltage 2. Bypass VIN1/VIN2 to GND with a 1 uF or greater capacitor", 5 VOUT1 (power) "Regulated Output Voltage 1. Connect a 1 uF or greater output capacitor between VOUT1 and GND.", 6 VOUT2 (power) "Regulated Output Voltage 2. Connect a 1 uF or greater output capacitor between VOUT2 and GND.", 7 VOUT3 (power) "Regulated Output Voltage 3. Connect a 1 uF or greater output capacitor between VOUT3 and GND.", 8 NC "Not connected internally.", 9 VIN3 (power) "Regulator Input Supply for Output Voltage 3. Bypass VIN3 to GND with a 1 uF or greater capacitor.", 10 VIN3 (power) "Regulator Input Supply for Output Voltage 3. Bypass VIN3 to GND with a 1 uF or greater capacitor.", 11 GND (power) "Ground Pin.", 12 GND (power) "Ground Pin.", 13 NC "Not connected internally.", 14 NC "Not connected internally.", 15 EN3 (in) "Enable Input for Regulator 3. Drive EN3 high to turn on Regulator 3; drive it low to turn off Regulator 3. For automatic startup, connect EN3 to VBIAS.", 16 EN2 (in) "Enable Input for Regulator 2. Drive EN1 high to turn on Regulator 2; drive it low to turn off Regulator 2. For automatic startup, connect EN2 to VBIAS.", 17 EP (power) "Exposed pad for enhanced thermal performance. Connect to copper ground plane."

## ADP322ACPZ-115-R7
designator U?
Triple, 200 mA, Low Noise, High PSRR Voltage Regulator, 2.5 to 5.5 V Vin, 1.8; 2.8; 3.3 V Vout, Industrial, 16-pin QFN (CP-16-27), Reel; Manufacturer: Analog Devices; PartNumber: ADP322ACPZ-115-R7; Iout max: 200mA; Supply Current IGND @ Small Load: 85uA; Vin (max) (V): 5.5; Vin (min) (V): 2.5; DatasheetVersion: Rev. A; PackageVersion: 091609-A, 09/2009; PackageReference: CP-16-27; PackageDescription: 16-Pin Lead Frame Chip Scale Package, Body 3 x 3 mm, Pitch 0.5 mm; Supplier 1: Digi-Key; Supplier Part Number 1: ADP322ACPZ-115-R7TR-ND; Supplier 2: Digi-Key; Supplier Part Number 2: ADP322ACPZ-115-R7CT-ND; Supplier 3: Digi-Key; Supplier Part Number 3: ADP322ACPZ-115-R7DKR-ND; Supplier 4: Mouser; Supplier Part Number 4: 584-ADP322ACPZ-115R7; Packing: Reel; Preset Vout Values (V): 1.8; 2.8; 3.3; Mounting Technology: Surface Mount; Code_JEDEC: MO-229; ComponentLink1Description: Manufacturer URL; ComponentLink1URL: http://www.analog.com/en/index.html; ComponentLink2Description: Datasheet; ComponentLink2URL: http://www.analog.com/static/imported-files/data_sheets/ADP322_323.pdf; ComponentLink3Description: Package Specification; ComponentLink3URL: http://www.analog.com/static/imported-files/packages/PKG_PDF/LFCSP(CP)/CP_16_27.pdf; ComponentLink4Description: URL Link1; ComponentLink4URL: Product URL:http://www.analog.com/en/ADP322/productSearch.html
footprint ADI-CP-16-27_N (QFN, 16-Leads, Body 3x3mm, Pitch 0.5mm, Thermal Pad 1.55X1.55mm, IPC Medium Density)
footprint ADI-CP-16-27_L (QFN, 16-Leads, Body 3x3mm, Pitch 0.5mm, Thermal Pad 1.55X1.55mm, IPC High Density)
footprint ADI-CP-16-27_M (QFN, 16-Leads, Body 3x3mm, Pitch 0.5mm, Thermal Pad 1.55X1.55mm, IPC Low Density)
part A pins: 1 EN1 (in) "Enable Input for Regulator 1. Drive EN1 high to turn on Regulator 1; drive it low to turn off Regulator 1. For automatic startup, connect EN1 to VBIAS.", 2 VBIAS (power) "Input Voltage Bias Supply. Bypass VBIAS to GND with a 1 uF or greater capacitor.", 3 VIN1/VIN2 (power) "Regulator Input Supply for Output Voltage 1 and Output Voltage 2. Bypass VIN1/VIN2 to GND with a 1 uF or greater capacitor.", 5 VOUT1 (power) "Regulated Output Voltage 1. Connect a 1 uF or greater output capacitor between VOUT1 and GND.", 6 VOUT2 (power) "Regulated Output Voltage 2. Connect a 1 uF or greater output capacitor between VOUT2 and GND.", 8 VOUT3 (power) "Regulated Output Voltage 3. Connect a 1 uF or greater output capacitor between VOUT3 and GND.", 10 VIN3 (power) "Regulator Input Supply for Output Voltage 3. Bypass VIN3 to GND with a 1 uF or greater capacitor.", 12 GND (power) "Ground Pin.", 15 EN3 (in) "Enable Input for Regulator 3. Drive EN3 high to turn on Regulator 3; drive it low to turn off Regulator 3. For automatic startup, connect EN3 to VBIAS.", 16 EN2 (in) "Enable Input for Regulator 2. Drive EN3 high to turn on Regulator 2; drive it low to turn off Regulator 2. For automatic startup, connect EN2 to VBIAS.", 17 EP (power) "Exposed pad for enhanced thermal performance. Connect to copper ground plane."
part B pins: 4 NC "Not connected internally.", 7 NC "Not connected internally.", 9 NC "Not connected internally.", 11 NC "Not connected internally.", 13 NC "Not connected internally.", 14 NC "Not connected internally."

## ADP322ACPZ-135-R7
designator U?
Triple, 200 mA, Low Noise, High PSRR Voltage Regulator, 2.5 to 5.5 V Vin, 1.8; 2.5; 3.3 V Vout, Industrial, 16-pin QFN (CP-16-27), Reel; Manufacturer: Analog Devices; PartNumber: ADP322ACPZ-135-R7; Iout max: 200mA; Supply Current IGND @ Small Load: 85uA; Vin (max) (V): 5.5; Vin (min) (V): 2.5; DatasheetVersion: Rev. A; PackageVersion: 091609-A, 09/2009; PackageReference: CP-16-27; PackageDescription: 16-Pin Lead Frame Chip Scale Package, Body 3 x 3 mm, Pitch 0.5 mm; Supplier 1: Digi-Key; Supplier Part Number 1: ADP322ACPZ-135-R7TR-ND; Supplier 2: Digi-Key; Supplier Part Number 2: ADP322ACPZ-135-R7CT-ND; Supplier 3: Digi-Key; Supplier Part Number 3: ADP322ACPZ-135-R7DKR-ND; Supplier 4: Newark; Supplier Part Number 4: 18T2037; Supplier 5: Mouser; Supplier Part Number 5: 584-ADP322ACPZ-135R7; Packing: Reel; Preset Vout Values (V): 1.8; 2.5; 3.3; Mounting Technology: Surface Mount; Code_JEDEC: MO-229; ComponentLink1Description: Manufacturer URL; ComponentLink1URL: http://www.analog.com/en/index.html; ComponentLink2Description: Datasheet; ComponentLink2URL: http://www.analog.com/static/imported-files/data_sheets/ADP322_323.pdf; ComponentLink3Description: Package Specification; ComponentLink3URL: http://www.analog.com/static/imported-files/packages/PKG_PDF/LFCSP(CP)/CP_16_27.pdf; ComponentLink4Description: URL Link1; ComponentLink4URL: Product URL:http://www.analog.com/en/ADP322/productSearch.html
footprint ADI-CP-16-27_N (QFN, 16-Leads, Body 3x3mm, Pitch 0.5mm, Thermal Pad 1.55X1.55mm, IPC Medium Density)
footprint ADI-CP-16-27_L (QFN, 16-Leads, Body 3x3mm, Pitch 0.5mm, Thermal Pad 1.55X1.55mm, IPC High Density)
footprint ADI-CP-16-27_M (QFN, 16-Leads, Body 3x3mm, Pitch 0.5mm, Thermal Pad 1.55X1.55mm, IPC Low Density)
part A pins: 1 EN1 (in) "Enable Input for Regulator 1. Drive EN1 high to turn on Regulator 1; drive it low to turn off Regulator 1. For automatic startup, connect EN1 to VBIAS.", 2 VBIAS (power) "Input Voltage Bias Supply. Bypass VBIAS to GND with a 1 uF or greater capacitor.", 3 VIN1/VIN2 (power) "Regulator Input Supply for Output Voltage 1 and Output Voltage 2. Bypass VIN1/VIN2 to GND with a 1 uF or greater capacitor.", 5 VOUT1 (power) "Regulated Output Voltage 1. Connect a 1 uF or greater output capacitor between VOUT1 and GND.", 6 VOUT2 (power) "Regulated Output Voltage 2. Connect a 1 uF or greater output capacitor between VOUT2 and GND.", 8 VOUT3 (power) "Regulated Output Voltage 3. Connect a 1 uF or greater output capacitor between VOUT3 and GND.", 10 VIN3 (power) "Regulator Input Supply for Output Voltage 3. Bypass VIN3 to GND with a 1 uF or greater capacitor.", 12 GND (power) "Ground Pin.", 15 EN3 (in) "Enable Input for Regulator 3. Drive EN3 high to turn on Regulator 3; drive it low to turn off Regulator 3. For automatic startup, connect EN3 to VBIAS.", 16 EN2 (in) "Enable Input for Regulator 2. Drive EN3 high to turn on Regulator 2; drive it low to turn off Regulator 2. For automatic startup, connect EN2 to VBIAS.", 17 EP (power) "Exposed pad for enhanced thermal performance. Connect to copper ground plane."
part B pins: 4 NC "Not connected internally.", 7 NC "Not connected internally.", 9 NC "Not connected internally.", 11 NC "Not connected internally.", 13 NC "Not connected internally.", 14 NC "Not connected internally."

## ADP322ACPZ-145-R7
designator U?
Triple, 200 mA, Low Noise, High PSRR Voltage Regulator, 2.5 to 5.5 V Vin, 1.2; 2.5; 3.3 V Vout, Industrial, 16-pin QFN (CP-16-27), Reel; Manufacturer: Analog Devices; PartNumber: ADP322ACPZ-145-R7; Iout max: 200mA; Supply Current IGND @ Small Load: 85uA; Vin (max) (V): 5.5; Vin (min) (V): 2.5; DatasheetVersion: Rev. A; PackageVersion: 091609-A, 09/2009; PackageReference: CP-16-27; PackageDescription: 16-Pin Lead Frame Chip Scale Package, Body 3 x 3 mm, Pitch 0.5 mm; Supplier 1: Digi-Key; Supplier Part Number 1: ADP322ACPZ-145-R7TR-ND; Supplier 2: Digi-Key; Supplier Part Number 2: ADP322ACPZ-145-R7CT-ND; Supplier 3: Digi-Key; Supplier Part Number 3: ADP322ACPZ-145-R7DKR-ND; Supplier 4: Farnell; Supplier Part Number 4: 1872642; Supplier 5: Newark; Supplier Part Number 5: 23T4167; Supplier 6: Mouser; Supplier Part Number 6: 584-ADP322ACPZ-145R7; Packing: Reel; Preset Vout Values (V): 1.2; 2.5; 3.3; Mounting Technology: Surface Mount; Code_JEDEC: MO-229; ComponentLink1Description: Manufacturer URL; ComponentLink1URL: http://www.analog.com/en/index.html; ComponentLink2Description: Datasheet; ComponentLink2URL: http://www.analog.com/static/imported-files/data_sheets/ADP322_323.pdf; ComponentLink3Description: Package Specification; ComponentLink3URL: http://www.analog.com/static/imported-files/packages/PKG_PDF/LFCSP(CP)/CP_16_27.pdf; ComponentLink4Description: URL Link1; ComponentLink4URL: Product URL:http://www.analog.com/en/ADP322/productSearch.html
footprint ADI-CP-16-27_N (QFN, 16-Leads, Body 3x3mm, Pitch 0.5mm, Thermal Pad 1.55X1.55mm, IPC Medium Density)
footprint ADI-CP-16-27_L (QFN, 16-Leads, Body 3x3mm, Pitch 0.5mm, Thermal Pad 1.55X1.55mm, IPC High Density)
footprint ADI-CP-16-27_M (QFN, 16-Leads, Body 3x3mm, Pitch 0.5mm, Thermal Pad 1.55X1.55mm, IPC Low Density)
part A pins: 1 EN1 (in) "Enable Input for Regulator 1. Drive EN1 high to turn on Regulator 1; drive it low to turn off Regulator 1. For automatic startup, connect EN1 to VBIAS.", 2 VBIAS (power) "Input Voltage Bias Supply. Bypass VBIAS to GND with a 1 uF or greater capacitor.", 3 VIN1/VIN2 (power) "Regulator Input Supply for Output Voltage 1 and Output Voltage 2. Bypass VIN1/VIN2 to GND with a 1 uF or greater capacitor.", 5 VOUT1 (power) "Regulated Output Voltage 1. Connect a 1 uF or greater output capacitor between VOUT1 and GND.", 6 VOUT2 (power) "Regulated Output Voltage 2. Connect a 1 uF or greater output capacitor between VOUT2 and GND.", 8 VOUT3 (power) "Regulated Output Voltage 3. Connect a 1 uF or greater output capacitor between VOUT3 and GND.", 10 VIN3 (power) "Regulator Input Supply for Output Voltage 3. Bypass VIN3 to GND with a 1 uF or greater capacitor.", 12 GND (power) "Ground Pin.", 15 EN3 (in) "Enable Input for Regulator 3. Drive EN3 high to turn on Regulator 3; drive it low to turn off Regulator 3. For automatic startup, connect EN3 to VBIAS.", 16 EN2 (in) "Enable Input for Regulator 2. Drive EN3 high to turn on Regulator 2; drive it low to turn off Regulator 2. For automatic startup, connect EN2 to VBIAS.", 17 EP (power) "Exposed pad for enhanced thermal performance. Connect to copper ground plane."
part B pins: 4 NC "Not connected internally.", 7 NC "Not connected internally.", 9 NC "Not connected internally.", 11 NC "Not connected internally.", 13 NC "Not connected internally.", 14 NC "Not connected internally."

## ADP322ACPZ-155-R7
designator U?
Triple, 200 mA, Low Noise, High PSRR Voltage Regulator, 2.5 to 5.5 V Vin, 1.5; 1.8; 3.3 V Vout, Industrial, 16-pin QFN (CP-16-27), Reel; Manufacturer: Analog Devices; PartNumber: ADP322ACPZ-155-R7; Iout max: 200mA; Supply Current IGND @ Small Load: 85uA; Vin (max) (V): 5.5; Vin (min) (V): 2.5; DatasheetVersion: Rev. A; PackageVersion: 091609-A, 09/2009; PackageReference: CP-16-27; PackageDescription: 16-Pin Lead Frame Chip Scale Package, Body 3 x 3 mm, Pitch 0.5 mm; Supplier 1: Digi-Key; Supplier Part Number 1: ADP322ACPZ-155-R7TR-ND; Supplier 2: Digi-Key; Supplier Part Number 2: ADP322ACPZ-155-R7CT-ND; Supplier 3: Digi-Key; Supplier Part Number 3: ADP322ACPZ-155-R7DKR-ND; Supplier 4: Newark; Supplier Part Number 4: 18T2038; Supplier 5: Mouser; Supplier Part Number 5: 584-ADP322ACPZ-155R7; Packing: Reel; Preset Vout Values (V): 1.5; 1.8; 3.3; Mounting Technology: Surface Mount; Code_JEDEC: MO-229; ComponentLink1Description: Manufacturer URL; ComponentLink1URL: http://www.analog.com/en/index.html; ComponentLink2Description: Datasheet; ComponentLink2URL: http://www.analog.com/static/imported-files/data_sheets/ADP322_323.pdf; ComponentLink3Description: Package Specification; ComponentLink3URL: http://www.analog.com/static/imported-files/packages/PKG_PDF/LFCSP(CP)/CP_16_27.pdf; ComponentLink4Description: URL Link1; ComponentLink4URL: Product URL:http://www.analog.com/en/ADP322/productSearch.html
footprint ADI-CP-16-27_N (QFN, 16-Leads, Body 3x3mm, Pitch 0.5mm, Thermal Pad 1.55X1.55mm, IPC Medium Density)
footprint ADI-CP-16-27_L (QFN, 16-Leads, Body 3x3mm, Pitch 0.5mm, Thermal Pad 1.55X1.55mm, IPC High Density)
footprint ADI-CP-16-27_M (QFN, 16-Leads, Body 3x3mm, Pitch 0.5mm, Thermal Pad 1.55X1.55mm, IPC Low Density)
part A pins: 1 EN1 (in) "Enable Input for Regulator 1. Drive EN1 high to turn on Regulator 1; drive it low to turn off Regulator 1. For automatic startup, connect EN1 to VBIAS.", 2 VBIAS (power) "Input Voltage Bias Supply. Bypass VBIAS to GND with a 1 uF or greater capacitor.", 3 VIN1/VIN2 (power) "Regulator Input Supply for Output Voltage 1 and Output Voltage 2. Bypass VIN1/VIN2 to GND with a 1 uF or greater capacitor.", 5 VOUT1 (power) "Regulated Output Voltage 1. Connect a 1 uF or greater output capacitor between VOUT1 and GND.", 6 VOUT2 (power) "Regulated Output Voltage 2. Connect a 1 uF or greater output capacitor between VOUT2 and GND.", 8 VOUT3 (power) "Regulated Output Voltage 3. Connect a 1 uF or greater output capacitor between VOUT3 and GND.", 10 VIN3 (power) "Regulator Input Supply for Output Voltage 3. Bypass VIN3 to GND with a 1 uF or greater capacitor.", 12 GND (power) "Ground Pin.", 15 EN3 (in) "Enable Input for Regulator 3. Drive EN3 high to turn on Regulator 3; drive it low to turn off Regulator 3. For automatic startup, connect EN3 to VBIAS.", 16 EN2 (in) "Enable Input for Regulator 2. Drive EN3 high to turn on Regulator 2; drive it low to turn off Regulator 2. For automatic startup, connect EN2 to VBIAS.", 17 EP (power) "Exposed pad for enhanced thermal performance. Connect to copper ground plane."
part B pins: 4 NC "Not connected internally.", 7 NC "Not connected internally.", 9 NC "Not connected internally.", 11 NC "Not connected internally.", 13 NC "Not connected internally.", 14 NC "Not connected internally."

## ADP322ACPZ-165-R7
designator U?
Triple, 200 mA, Low Noise, High PSRR Voltage Regulator, 2.5 to 5.5 V Vin, 1.2; 1.8; 3.3 V Vout, Industrial, 16-pin QFN (CP-16-27), Reel; Manufacturer: Analog Devices; PartNumber: ADP322ACPZ-165-R7; Iout max: 200mA; Supply Current IGND @ Small Load: 85uA; Vin (max) (V): 5.5; Vin (min) (V): 2.5; DatasheetVersion: Rev. A; PackageVersion: 091609-A, 09/2009; PackageReference: CP-16-27; PackageDescription: 16-Pin Lead Frame Chip Scale Package, Body 3 x 3 mm, Pitch 0.5 mm; Supplier 1: Digi-Key; Supplier Part Number 1: ADP322ACPZ-165-R7TR-ND; Supplier 2: Digi-Key; Supplier Part Number 2: ADP322ACPZ-165-R7CT-ND; Supplier 3: Digi-Key; Supplier Part Number 3: ADP322ACPZ-165-R7DKR-ND; Supplier 4: Mouser; Supplier Part Number 4: 584-ADP322ACPZ-165R7; Packing: Reel; Preset Vout Values (V): 1.2; 1.8; 3.3; Mounting Technology: Surface Mount; Code_JEDEC: MO-229; ComponentLink1Description: Manufacturer URL; ComponentLink1URL: http://www.analog.com/en/index.html; ComponentLink2Description: Datasheet; ComponentLink2URL: http://www.analog.com/static/imported-files/data_sheets/ADP322_323.pdf; ComponentLink3Description: Package Specification; ComponentLink3URL: http://www.analog.com/static/imported-files/packages/PKG_PDF/LFCSP(CP)/CP_16_27.pdf; ComponentLink4Description: URL Link1; ComponentLink4URL: Product URL:http://www.analog.com/en/ADP322/productSearch.html
footprint ADI-CP-16-27_N (QFN, 16-Leads, Body 3x3mm, Pitch 0.5mm, Thermal Pad 1.55X1.55mm, IPC Medium Density)
footprint ADI-CP-16-27_L (QFN, 16-Leads, Body 3x3mm, Pitch 0.5mm, Thermal Pad 1.55X1.55mm, IPC High Density)
footprint ADI-CP-16-27_M (QFN, 16-Leads, Body 3x3mm, Pitch 0.5mm, Thermal Pad 1.55X1.55mm, IPC Low Density)
part A pins: 1 EN1 (in) "Enable Input for Regulator 1. Drive EN1 high to turn on Regulator 1; drive it low to turn off Regulator 1. For automatic startup, connect EN1 to VBIAS.", 2 VBIAS (power) "Input Voltage Bias Supply. Bypass VBIAS to GND with a 1 uF or greater capacitor.", 3 VIN1/VIN2 (power) "Regulator Input Supply for Output Voltage 1 and Output Voltage 2. Bypass VIN1/VIN2 to GND with a 1 uF or greater capacitor.", 5 VOUT1 (power) "Regulated Output Voltage 1. Connect a 1 uF or greater output capacitor between VOUT1 and GND.", 6 VOUT2 (power) "Regulated Output Voltage 2. Connect a 1 uF or greater output capacitor between VOUT2 and GND.", 8 VOUT3 (power) "Regulated Output Voltage 3. Connect a 1 uF or greater output capacitor between VOUT3 and GND.", 10 VIN3 (power) "Regulator Input Supply for Output Voltage 3. Bypass VIN3 to GND with a 1 uF or greater capacitor.", 12 GND (power) "Ground Pin.", 15 EN3 (in) "Enable Input for Regulator 3. Drive EN3 high to turn on Regulator 3; drive it low to turn off Regulator 3. For automatic startup, connect EN3 to VBIAS.", 16 EN2 (in) "Enable Input for Regulator 2. Drive EN3 high to turn on Regulator 2; drive it low to turn off Regulator 2. For automatic startup, connect EN2 to VBIAS.", 17 EP (power) "Exposed pad for enhanced thermal performance. Connect to copper ground plane."
part B pins: 4 NC "Not connected internally.", 7 NC "Not connected internally.", 9 NC "Not connected internally.", 11 NC "Not connected internally.", 13 NC "Not connected internally.", 14 NC "Not connected internally."

## ADP322ACPZ-175-R7
designator U?
Triple, 200 mA, Low Noise, High PSRR Voltage Regulator, 2.5 to 5.5 V Vin, 1.2; 1.8; 2.8 V Vout, Industrial, 16-pin QFN (CP-16-27), Reel; Manufacturer: Analog Devices; PartNumber: ADP322ACPZ-175-R7; Iout max: 200mA; Supply Current IGND @ Small Load: 85uA; Vin (max) (V): 5.5; Vin (min) (V): 2.5; DatasheetVersion: Rev. A; PackageVersion: 091609-A, 09/2009; PackageReference: CP-16-27; PackageDescription: 16-Pin Lead Frame Chip Scale Package, Body 3 x 3 mm, Pitch 0.5 mm; Supplier 1: Digi-Key; Supplier Part Number 1: ADP322ACPZ-175-R7TR-ND; Supplier 2: Digi-Key; Supplier Part Number 2: ADP322ACPZ-175-R7CT-ND; Supplier 3: Digi-Key; Supplier Part Number 3: ADP322ACPZ-175-R7DKR-ND; Supplier 4: Mouser; Supplier Part Number 4: 584-ADP322ACPZ-175R7; Packing: Reel; Preset Vout Values (V): 1.2; 1.8; 2.8; Mounting Technology: Surface Mount; Code_JEDEC: MO-229; ComponentLink1Description: Manufacturer URL; ComponentLink1URL: http://www.analog.com/en/index.html; ComponentLink2Description: Datasheet; ComponentLink2URL: http://www.analog.com/static/imported-files/data_sheets/ADP322_323.pdf; ComponentLink3Description: Package Specification; ComponentLink3URL: http://www.analog.com/static/imported-files/packages/PKG_PDF/LFCSP(CP)/CP_16_27.pdf; ComponentLink4Description: URL Link1; ComponentLink4URL: Product URL:http://www.analog.com/en/ADP322/productSearch.html
footprint ADI-CP-16-27_N (QFN, 16-Leads, Body 3x3mm, Pitch 0.5mm, Thermal Pad 1.55X1.55mm, IPC Medium Density)
footprint ADI-CP-16-27_L (QFN, 16-Leads, Body 3x3mm, Pitch 0.5mm, Thermal Pad 1.55X1.55mm, IPC High Density)
footprint ADI-CP-16-27_M (QFN, 16-Leads, Body 3x3mm, Pitch 0.5mm, Thermal Pad 1.55X1.55mm, IPC Low Density)
part A pins: 1 EN1 (in) "Enable Input for Regulator 1. Drive EN1 high to turn on Regulator 1; drive it low to turn off Regulator 1. For automatic startup, connect EN1 to VBIAS.", 2 VBIAS (power) "Input Voltage Bias Supply. Bypass VBIAS to GND with a 1 uF or greater capacitor.", 3 VIN1/VIN2 (power) "Regulator Input Supply for Output Voltage 1 and Output Voltage 2. Bypass VIN1/VIN2 to GND with a 1 uF or greater capacitor.", 5 VOUT1 (power) "Regulated Output Voltage 1. Connect a 1 uF or greater output capacitor between VOUT1 and GND.", 6 VOUT2 (power) "Regulated Output Voltage 2. Connect a 1 uF or greater output capacitor between VOUT2 and GND.", 8 VOUT3 (power) "Regulated Output Voltage 3. Connect a 1 uF or greater output capacitor between VOUT3 and GND.", 10 VIN3 (power) "Regulator Input Supply for Output Voltage 3. Bypass VIN3 to GND with a 1 uF or greater capacitor.", 12 GND (power) "Ground Pin.", 15 EN3 (in) "Enable Input for Regulator 3. Drive EN3 high to turn on Regulator 3; drive it low to turn off Regulator 3. For automatic startup, connect EN3 to VBIAS.", 16 EN2 (in) "Enable Input for Regulator 2. Drive EN3 high to turn on Regulator 2; drive it low to turn off Regulator 2. For automatic startup, connect EN2 to VBIAS.", 17 EP (power) "Exposed pad for enhanced thermal performance. Connect to copper ground plane."
part B pins: 4 NC "Not connected internally.", 7 NC "Not connected internally.", 9 NC "Not connected internally.", 11 NC "Not connected internally.", 13 NC "Not connected internally.", 14 NC "Not connected internally."